# EAGLE library part MC14051BDR2G (library MC14051BDR2G)
Low-noise - 12 nV/sqrt.Cycle, f <= 1.0 kHz Typical; For 4PDT Switch, See MC14551B; Switch Function is Break Before Make; Supply Voltage Range = 3.0 Vdc to 18 Vdc; Analog Voltage Range (VDD - VEE) = 3.0 to 18 V Note: VEE must be <= VSS; Triple Diode Protection on Control Inputs; For Lower RON, Use the HC4051, HC4052, or HC4053 High-Speed CMOS Devices; Linearized Transfer Characteristics; Pin-for-Pin Replacement for CD4051, CD4052, and CD4053; Pb-Free Packages are Available* Source: Datasheet <https://www.onsemi.com/pub/Collateral/MC14051B-D.PDF>
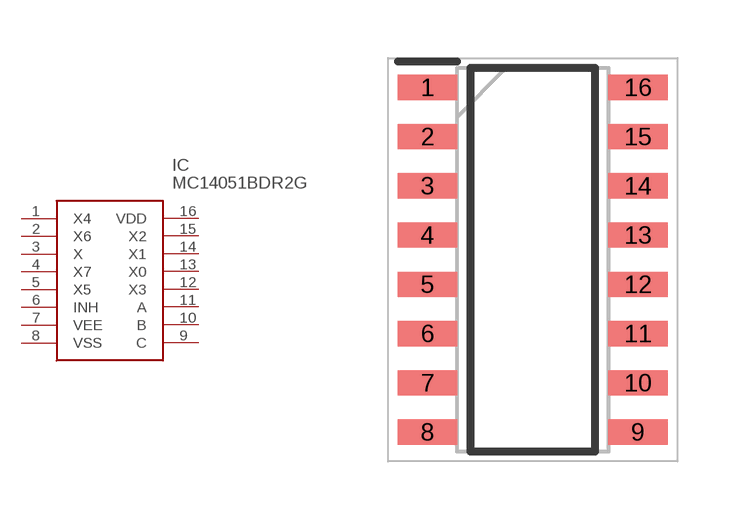
[diagram p0: symbol with the pads of SOIC127P600X175-16N; footprint SOIC127P600X175-16N]

Designator prefix IC

## MC14051BDR2G (Description: Low-noise - 12 nV/sqrt.Cycle, f <= 1.0 kHz Typical; For 4PDT Switch, See MC14551B; Switch Function is Break Before Make; Supply Voltage Range = 3.0 Vdc to 18 Vdc; Analog Voltage Range (VDD - VEE) = 3.0 to 18 V Note: VEE must be <= VSS; Triple Diode Protection on Control Inputs; For Lower RON, Use the HC4051, HC4052, or HC4053 High-Speed CMOS Devices; Linearized Transfer Characteristics; Pin-for-Pin Replacement for CD4051, CD4052, and CD4053; Pb-Free Packages are Available*; Height: 1.75mm; Manufacturer_Name: onsemi; Manufacturer_Part_Number: MC14051BDR2G; Mouser_Part_Number: 863-MC14051BDR2G; Mouser_Price-Stock: https://www.mouser.co.uk/ProductDetail/onsemi/MC14051BDR2G?qs=g2rIOKKlpoZiRT%252Bz5I%252B8eg%3D%3D)  [SOIC127P600X175-16N]
1  X4
2  X6
3  X
4  X7
5  X5
6  INH
7  VEE
8  VSS
9  C
10  B
11  A
12  X3
13  X0
14  X1
15  X2
16  VDD

## Footprint SOIC127P600X175-16N (pad centres in mm)
SOIC−16 9.90x3.90x1.37 1.27P
smd 1.525 x 0.65: 1 -2.712,4.445; 2 -2.712,3.175; 3 -2.712,1.905; 4 -2.712,0.635; 5 -2.712,-0.635; 6 -2.712,-1.905; 7 -2.712,-3.175; 8 -2.712,-4.445; 9 2.712,-4.445; 10 2.712,-3.175; 11 2.712,-1.905; 12 2.712,-0.635; 13 2.712,0.635; 14 2.712,1.905; 15 2.712,3.175; 16 2.712,4.445